# Altium footprint library PPPC041LGBN-RC.PcbLib: 1 footprints
Each footprint in its own frame and in the unit in brackets; x right, y up, seen from the top. Pads: shape width x height; smd on the part's side, far side on the other; paste and mask are expansions set on the pad; w line width, h text height; cw(c..) or ccw(c..) is an arc to the next point about the centre after c.
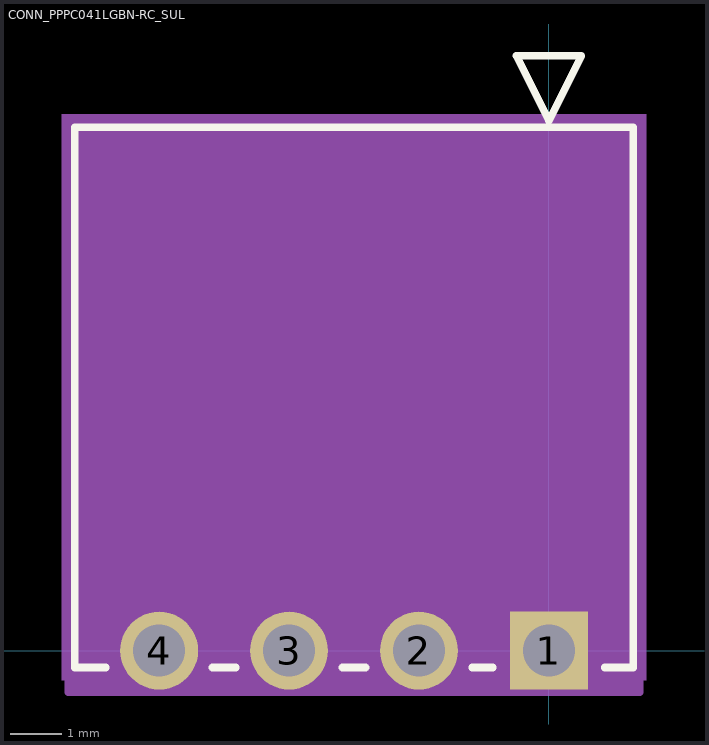
[diagram p0: the footprint, top view; thin cyan lines are the x and y axes]

## CONN_PPPC041LGBN-RC_SUL [mil]
pads (4):
  rect 60x60 hole 40 mask+0: 1(0,0)
  round 60 hole 40 mask+0: 2(-100,0) 3(-200,0) 4(-300,0)
Top Overlay:
  lines w6: -341.09,-13 -365,-13 -365,403 65,403 65,-13 43.1,-13 ; -258.91,-13 -241.09,-13 ; -158.91,-13 -141.09,-13 ; -58.91,-13 -43.1,-13 ; -25,458 0,408 25,458 -25,458
Mechanical 5:
  region: -375,413 75,413 75,-23 -375,-23
Mechanical 13:
  lines w1: -360,-8 60,-8 60,398 -360,398 -360,-8 ; -25,458 0,408 25,458 -25,458
Mechanical 15:
  region: 70,408 -370,408 -370,-32 70,-32
  lines w6: -370,-32 -370,408 70,408 70,-32 -370,-32
3D body: height 10, standoff 0, extent 0,0 10,10